# Altium schematic symbol library 74hc.SchLib: 44 symbols
Pins are listed as number, name and electrical type; pins without a type are passive.

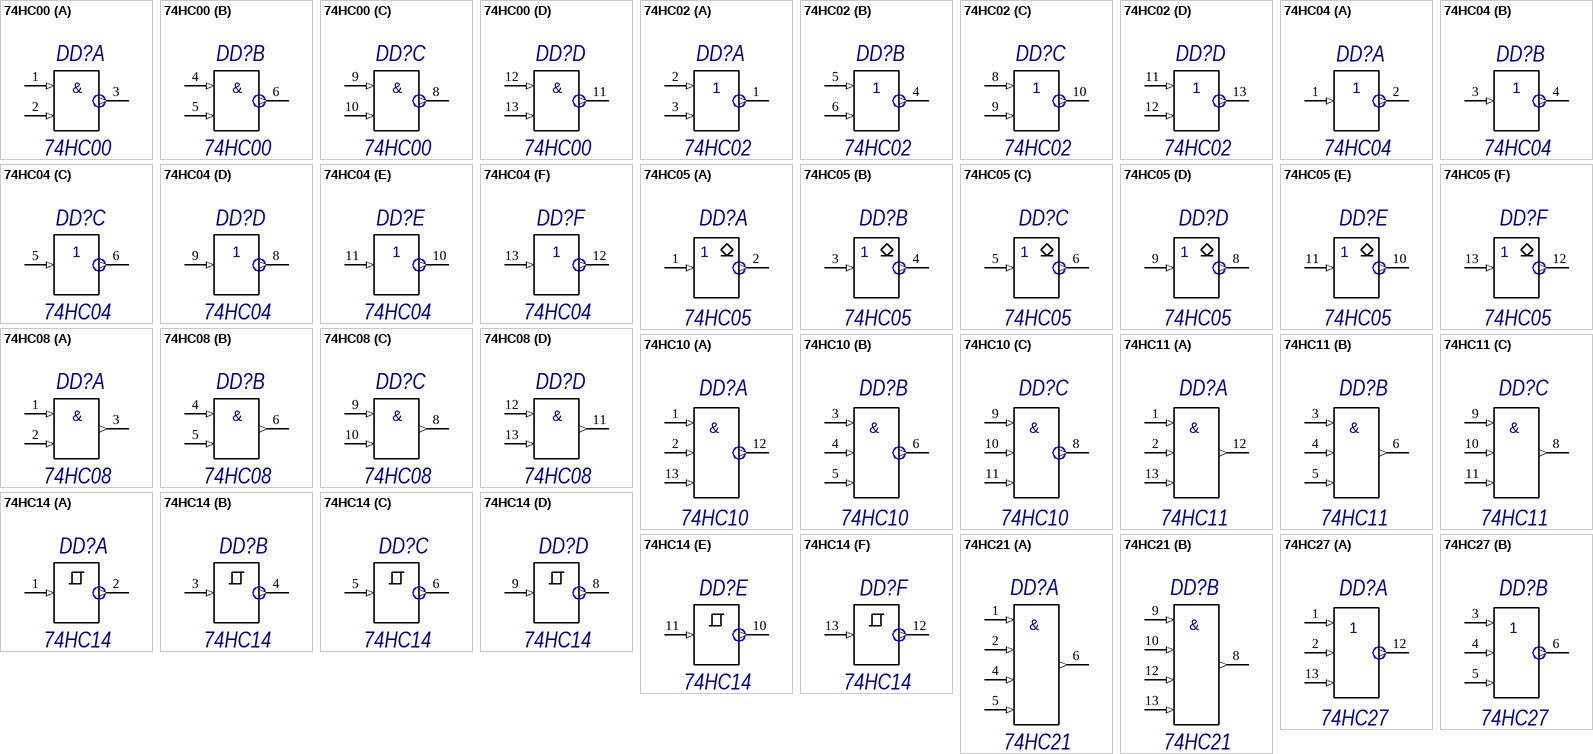
[diagram p0: symbols 74HC00 to 74HC27]

## 74HC00
designator DD?
Value: *
footprint SO14
pins on every part: 7 GND (power) hidden, 14 VCC (power) hidden
part A pins: 1 A (in), 2 B (in), 3 Y (out)
part B pins: 4 A (in), 5 B (in), 6 Y (out)
part C pins: 8 Y (out), 9 A (in), 10 B (in)
part D pins: 11 Y (out), 12 A (in), 13 B (in)
part A text: &
part B text: &
part C text: &
part D text: &

## 74HC02
designator DD?
Value: *
footprint SO14
pins on every part: 7 GND (power) hidden, 14 VCC (power) hidden
part A pins: 1 Y (out), 2 A (in), 3 B (in)
part B pins: 4 Y (out), 5 A (in), 6 B (in)
part C pins: 8 A (in), 9 B (in), 10 Y (out)
part D pins: 11 A (in), 12 B (in), 13 Y (out)

## 74HC04
designator DD?
Value: *
footprint SO14
pins on every part: 7 GND (power) hidden, 14 VCC (power) hidden
part A pins: 1 A (in), 2 Y (out)
part B pins: 3 A (in), 4 Y (out)
part C pins: 5 A (in), 6 Y (out)
part D pins: 8 Y (out), 9 A (in)
part E pins: 10 Y (out), 11 A (in)
part F pins: 12 Y (out), 13 A (in)

## 74HC05
designator DD?
Value: *
footprint SO14
pins on every part: 7 GND (power) hidden, 14 VCC (power) hidden
part A pins: 1 X (in), 2 Y (out)
part B pins: 3 X (in), 4 Y (out)
part C pins: 5 X (in), 6 Y (out)
part D pins: 8 Y (out), 9 X (in)
part E pins: 10 Y (out), 11 X (in)
part F pins: 12 Y (out), 13 X (in)

## 74HC08
designator DD?
Value: *
footprint SO14
pins on every part: 7 GND (power) hidden, 14 VCC (power) hidden
part A pins: 1 A (in), 2 B (in), 3 Y (out)
part B pins: 4 A (in), 5 B (in), 6 Y (out)
part C pins: 8 Y (out), 9 A (in), 10 B (in)
part D pins: 11 Y (out), 12 A (in), 13 B (in)
part A text: &
part B text: &
part C text: &
part D text: &

## 74HC10
designator DD?
Value: *
footprint SO14
pins on every part: 7 GND (power) hidden, 14 VCC (power) hidden
part A pins: 1 A (in), 2 B (in), 12 Y (out), 13 C (in)
part B pins: 3 A (in), 4 B (in), 5 C (in), 6 Y (out)
part C pins: 8 Y (out), 9 A (in), 10 B (in), 11 C (in)
part A text: &
part B text: &
part C text: &

## 74HC11
designator DD?
Value: *
footprint SO14
pins on every part: 7 GND (power) hidden, 14 VCC (power) hidden
part A pins: 1 A (in), 2 B (in), 12 Y (out), 13 C (in)
part B pins: 3 A (in), 4 B (in), 5 C (in), 6 Y (out)
part C pins: 8 Y (out), 9 A (in), 10 B (in), 11 C (in)
part A text: &
part B text: &
part C text: &

## 74HC14
designator DD?
Value: *
footprint SO14
pins on every part: 7 GND (power) hidden, 14 VCC (power) hidden
part A pins: 1 A (in), 2 Y (out)
part B pins: 3 A (in), 4 Y (out)
part C pins: 5 A (in), 6 Y (out)
part D pins: 8 Y (out), 9 A (in)
part E pins: 10 Y (out), 11 A (in)
part F pins: 12 Y (out), 13 A (in)

## 74HC21
designator DD?
Value: *
footprint SO14
pins on every part: 3 hidden, 7 GND (power) hidden, 11 hidden, 14 VCC (power) hidden
part A pins: 1 A (in), 2 B (in), 4 C (in), 5 D (in), 6 Y (out)
part B pins: 8 Y (out), 9 A (in), 10 B (in), 12 C (in), 13 D (in)
part A text: &
part B text: &

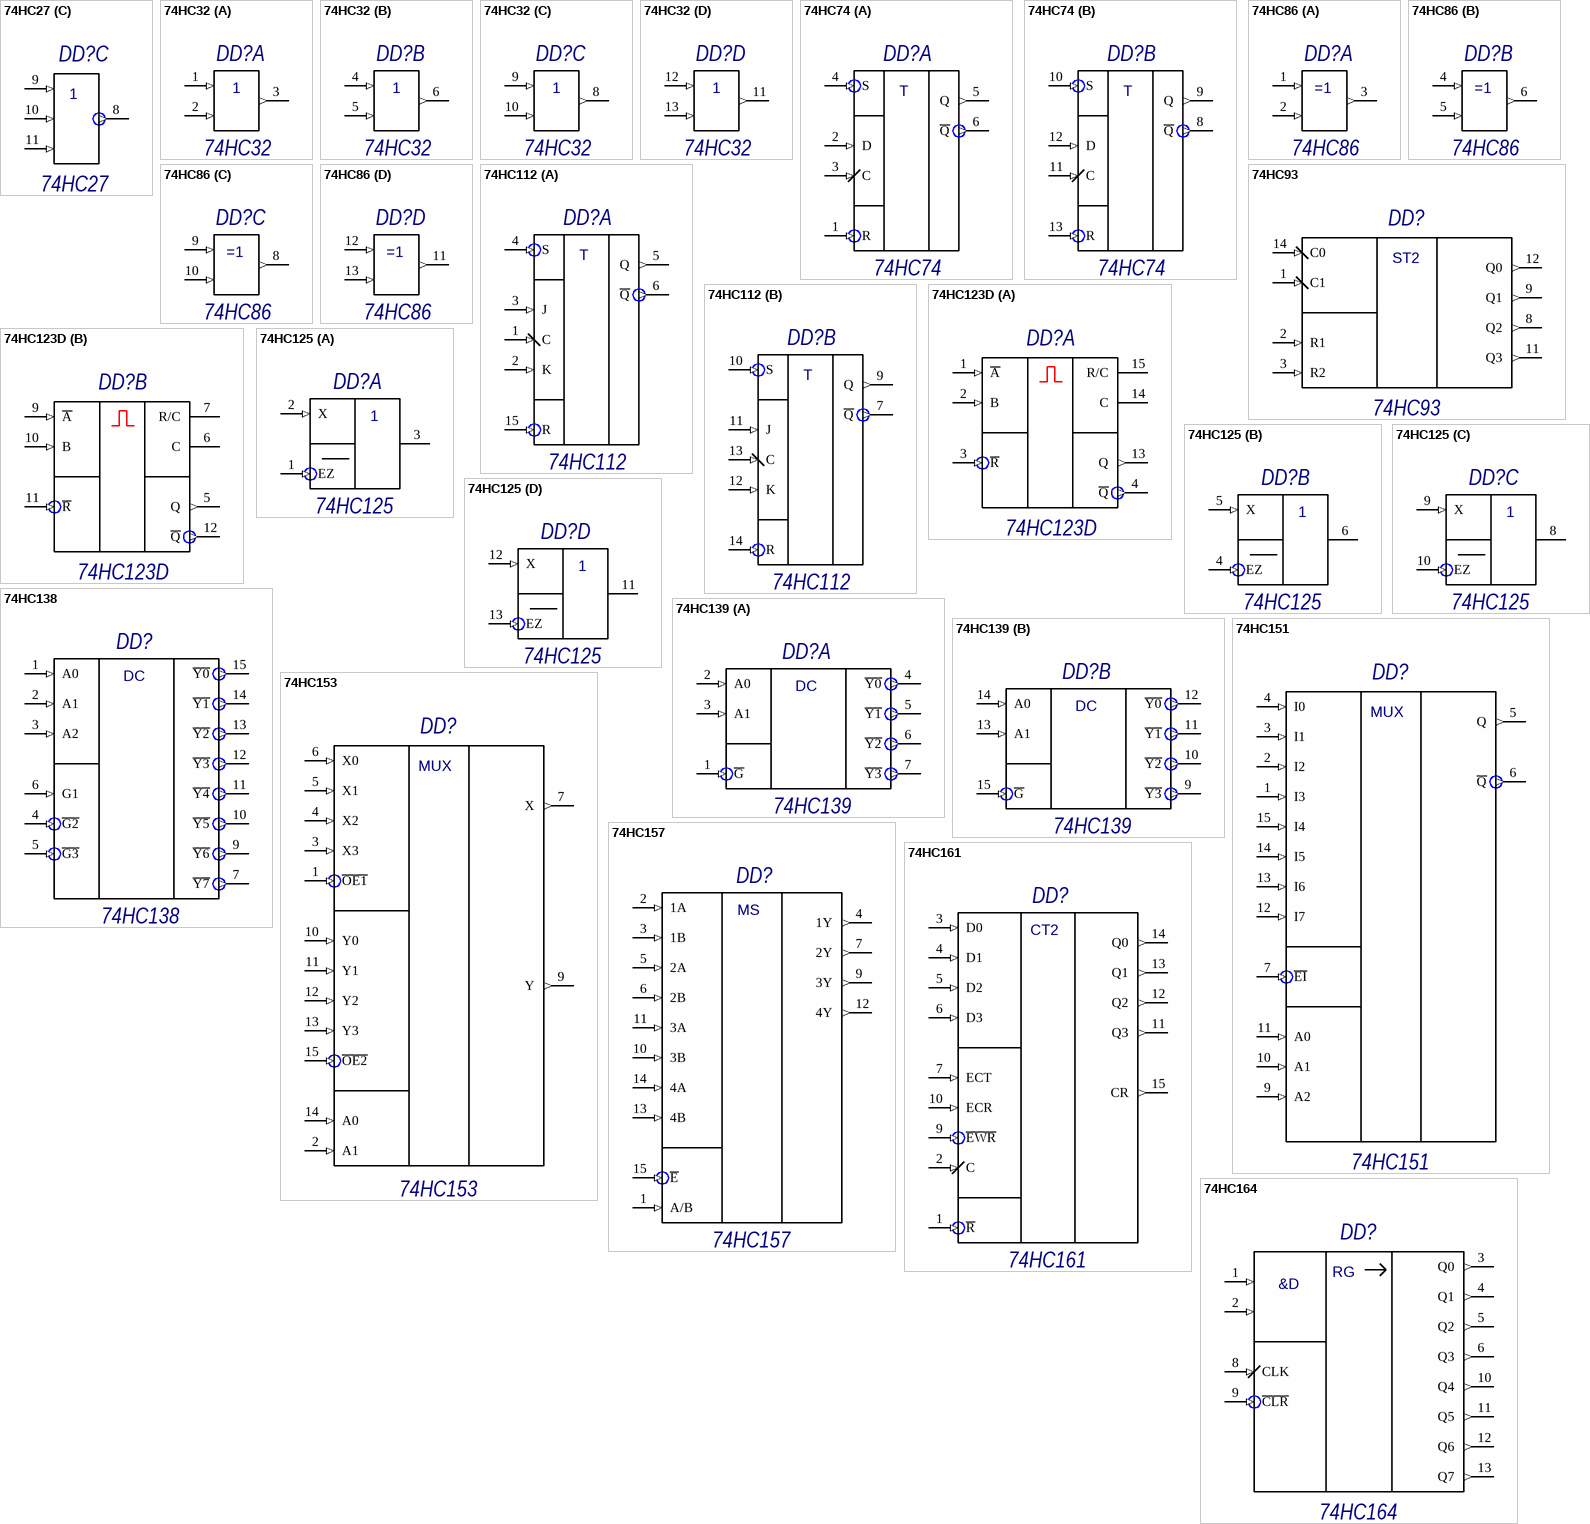
[diagram p1: symbols 74HC27 to 74HC164]

## 74HC27
designator DD?
Value: *
footprint SO14
pins on every part: 7 GND (power) hidden, 14 VCC (power) hidden
part A pins: 1 A (in), 2 B (in), 12 Y (out), 13 C (in)
part B pins: 3 A (in), 4 B (in), 5 C (in), 6 Y (out)
part C pins: 8 Y (out), 9 A (in), 10 B (in), 11 C (in)

## 74HC32
designator DD?
Value: *
footprint SO14
pins on every part: 7 GND (power) hidden, 14 VCC (power) hidden
part A pins: 1 A (in), 2 B (in), 3 Y (out)
part B pins: 4 A (in), 5 B (in), 6 Y (out)
part C pins: 8 Y (out), 9 A (in), 10 B (in)
part D pins: 11 Y (out), 12 A (in), 13 B (in)

## 74HC74
designator DD?
Value: *
footprint SO14
pins on every part: 7 GND (power) hidden, 14 VCC (power) hidden
part A pins: 1 R (in), 2 D (in), 3 C (in), 4 S (in), 5 Q (out), 6 ~{Q} (out)
part B pins: 8 ~{Q} (out), 9 Q (out), 10 S (in), 11 C (in), 12 D (in), 13 R (in)
part A text: T
part B text: T

## 74HC86
designator DD?
Value: *
footprint SO14
pins on every part: 7 GND (power) hidden, 14 VCC (power) hidden
part A pins: 1 A (in), 2 B (in), 3 Y (out)
part B pins: 4 A (in), 5 B (in), 6 Y (out)
part C pins: 8 Y (out), 9 A (in), 10 B (in)
part D pins: 11 Y (out), 12 A (in), 13 B (in)

## 74HC93
designator DD?
Value: *
footprint SO14
pins: 1 C1 (in), 2 R1 (in), 3 R2 (in), 4 hidden, 5 VCC (power) hidden, 6 hidden, 7 hidden, 8 Q2 (out), 9 Q1 (out), 10 GND (power) hidden, 11 Q3 (out), 12 Q0 (out), 13 hidden, 14 C0 (in)
text: ST2

## 74HC112
designator DD?
Value: *
footprint SO16
pins on every part: 8 GND (power) hidden, 16 VCC (power) hidden
part A pins: 1 C (in), 2 K (in), 3 J (in), 4 S (in), 5 Q (out), 6 ~{Q} (out), 15 R (in)
part B pins: 7 ~{Q} (out), 9 Q (out), 10 S (in), 11 J (in), 12 K (in), 13 C (in), 14 R (in)
part A text: T
part B text: T

## 74HC123D
designator DD?
Value: *
footprint SO16
pins on every part: 8 GND (power) hidden, 16 VCC (power) hidden
part A pins: 1 ~{A} (in), 2 B (in), 3 ~{R} (in), 4 ~{Q} (out), 13 Q (out), 14 C, 15 R/C
part B pins: 5 Q (out), 6 C, 7 R/C, 9 ~{A} (in), 10 B (in), 11 ~{R} (in), 12 ~{Q} (out)

## 74HC125
designator DD?
Value: *
footprint SO14
pins on every part: 7 GND (power) hidden, 14 VCC (power) hidden
part A pins: 1 EZ (in), 2 X (in), 3 Y (hiz)
part B pins: 4 EZ (in), 5 X (in), 6 Y (hiz)
part C pins: 8 Y (hiz), 9 X (in), 10 EZ (in)
part D pins: 11 Y (hiz), 12 X (in), 13 EZ (in)

## 74HC138
designator DD?
Value: *
footprint SO16
pins: 1 A0 (in), 2 A1 (in), 3 A2 (in), 4 ~{G2} (in), 5 ~{G3} (in), 6 G1 (in), 7 ~{Y7} (out), 8 GND (power) hidden, 9 ~{Y6} (out), 10 ~{Y5} (out), 11 ~{Y4} (out), 12 ~{Y3} (out), 13 ~{Y2} (out), 14 ~{Y1} (out), 15 ~{Y0} (out), 16 VCC (power) hidden
text: DC

## 74HC139
designator DD?
Value: *
footprint SO16
pins on every part: 8 GND (power) hidden, 16 VCC (power) hidden
part A pins: 1 ~{G} (in), 2 A0 (in), 3 A1 (in), 4 ~{Y0} (out), 5 ~{Y1} (out), 6 ~{Y2} (out), 7 ~{Y3} (out)
part B pins: 9 ~{Y3} (out), 10 ~{Y2} (out), 11 ~{Y1} (out), 12 ~{Y0} (out), 13 A1 (in), 14 A0 (in), 15 ~{G} (in)
part A text: DC
part B text: DC

## 74HC151
designator DD?
Value: *
footprint SO16
pins: 1 I3 (in), 2 I2 (in), 3 I1 (in), 4 I0 (in), 5 Q (out), 6 ~{Q} (out), 7 ~{EI} (in), 8 GND (power) hidden, 9 A2 (in), 10 A1 (in), 11 A0 (in), 12 I7 (in), 13 I6 (in), 14 I5 (in), 15 I4 (in), 16 VCC (power) hidden
text: MUX

## 74HC153
designator DD?
Value: *
footprint SO16
pins: 1 ~{OE1} (in), 2 A1 (in), 3 X3 (in), 4 X2 (in), 5 X1 (in), 6 X0 (in), 7 X (out), 8 GND (power) hidden, 9 Y (out), 10 Y0 (in), 11 Y1 (in), 12 Y2 (in), 13 Y3 (in), 14 A0 (in), 15 ~{OE2} (in), 16 VCC (power) hidden
text: MUX

## 74HC157
designator DD?
Value: *
footprint SO16
pins: 1 A/B (in), 2 1A (in), 3 1B (in), 4 1Y (out), 5 2A (in), 6 2B (in), 7 2Y (out), 8 GND (power) hidden, 9 3Y (out), 10 3B (in), 11 3A (in), 12 4Y (out), 13 4B (in), 14 4A (in), 15 ~{E} (in), 16 VCC (power) hidden
text: MS

## 74HC161
designator DD?
Value: *
footprint SO16
pins: 1 ~{R} (in), 2 C (in), 3 D0 (in), 4 D1 (in), 5 D2 (in), 6 D3 (in), 7 ECT (in), 8 GND (power) hidden, 9 ~{EWR} (in), 10 ECR (in), 11 Q3 (out), 12 Q2 (out), 13 Q1 (out), 14 Q0 (out), 15 CR (out), 16 VCC (power) hidden
text: CT2

## 74HC164
designator DD?
Value: *
footprint SO14
pins: 1 D1 (in), 2 D2 (in), 3 Q0 (out), 4 Q1 (out), 5 Q2 (out), 6 Q3 (out), 7 GND (power) hidden, 8 CLK (in), 9 ~{CLR} (in), 10 Q4 (out), 11 Q5 (out), 12 Q6 (out), 13 Q7 (out), 14 VCC (power) hidden
text: RG; &D

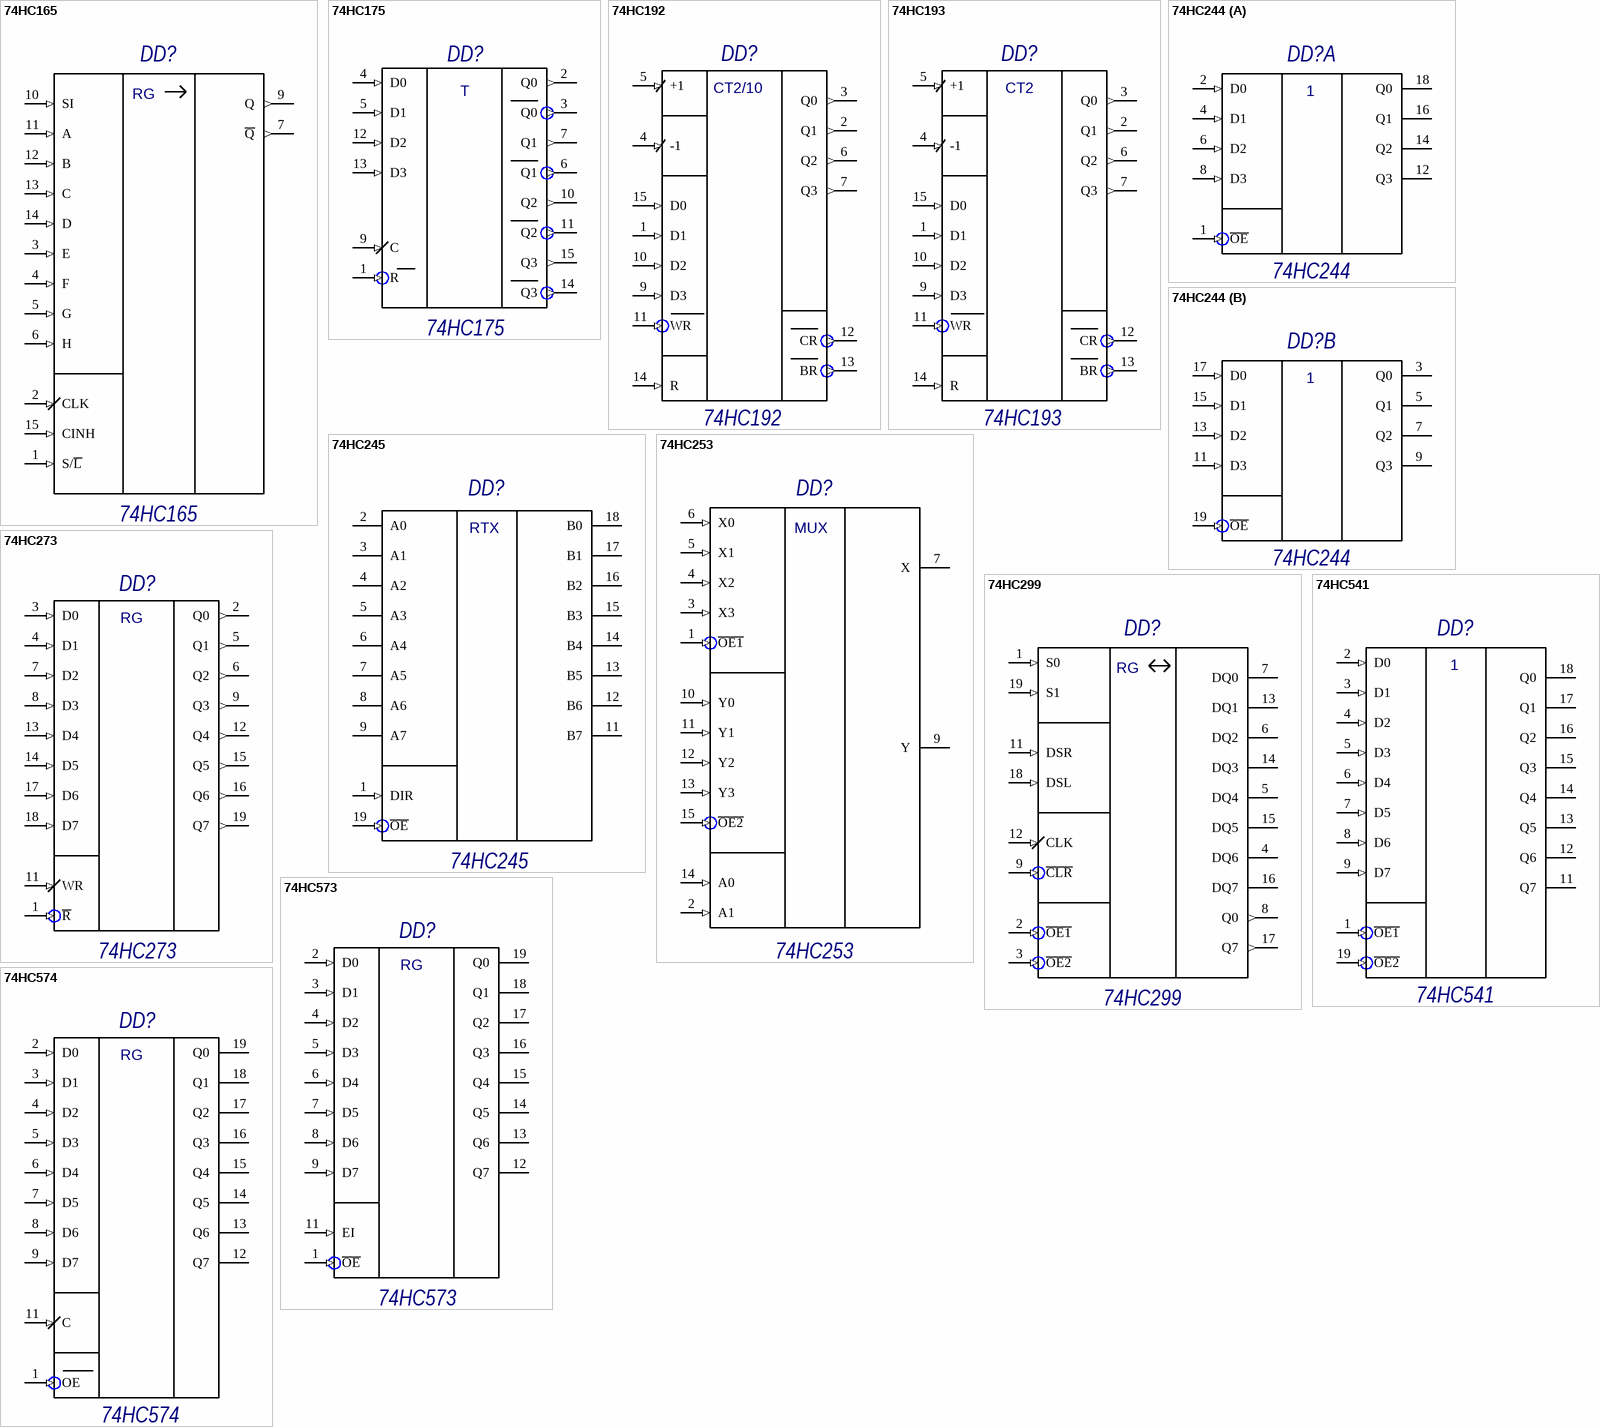
[diagram p2: symbols 74HC165 to 74HC574]

## 74HC165
designator DD?
Value: *
footprint SO16
pins: 1 S/~{L} (in), 2 CLK (in), 3 E (in), 4 F (in), 5 G (in), 6 H (in), 7 ~{Q} (out), 8 GND (power) hidden, 9 Q (out), 10 SI (in), 11 A (in), 12 B (in), 13 C (in), 14 D (in), 15 CINH (in), 16 VCC (power) hidden
text: RG

## 74HC175
designator DD?
Value: *
footprint SO16
pins: 1 R (in), 2 Q0 (out), 3 Q0 (out), 4 D0 (in), 5 D1 (in), 6 Q1 (out), 7 Q1 (out), 8 GND (power) hidden, 9 C (in), 10 Q2 (out), 11 Q2 (out), 12 D2 (in), 13 D3 (in), 14 Q3 (out), 15 Q3 (out), 16 VCC (power) hidden
text: T

## 74HC192
designator DD?
Value: *
footprint SO16
pins: 1 D1 (in), 2 Q1 (out), 3 Q0 (out), 4 -1 (in), 5 +1 (in), 6 Q2 (out), 7 Q3 (out), 8 GND (power) hidden, 9 D3 (in), 10 D2 (in), 11 WR (in), 12 CR (out), 13 BR (out), 14 R (in), 15 D0 (in), 16 VCC (power) hidden
text: CT2/10

## 74HC193
designator DD?
Value: *
footprint SO16
pins: 1 D1 (in), 2 Q1 (out), 3 Q0 (out), 4 -1 (in), 5 +1 (in), 6 Q2 (out), 7 Q3 (out), 8 GND (power) hidden, 9 D3 (in), 10 D2 (in), 11 WR (in), 12 CR (out), 13 BR (out), 14 R (in), 15 D0 (in), 16 VCC (power) hidden
text: CT2

## 74HC244
designator DD?
Value: *
footprint SOL20
pins on every part: 10 GND (power) hidden, 20 VCC (power) hidden
part A pins: 1 ~{OE} (in), 2 D0 (in), 4 D1 (in), 6 D2 (in), 8 D3 (in), 12 Q3 (hiz), 14 Q2 (hiz), 16 Q1 (hiz), 18 Q0 (hiz)
part B pins: 3 Q0 (hiz), 5 Q1 (hiz), 7 Q2 (hiz), 9 Q3 (hiz), 11 D3 (in), 13 D2 (in), 15 D1 (in), 17 D0 (in), 19 ~{OE} (in)

## 74HC245
designator DD?
Value: *
footprint SOL20
pins: 1 DIR (in), 2 A0 (hiz), 3 A1 (hiz), 4 A2 (hiz), 5 A3 (hiz), 6 A4 (hiz), 7 A5 (hiz), 8 A6 (hiz), 9 A7 (hiz), 10 GND (power) hidden, 11 B7 (hiz), 12 B6 (hiz), 13 B5 (hiz), 14 B4 (hiz), 15 B3 (hiz), 16 B2 (hiz), 17 B1 (hiz), 18 B0 (hiz), 19 ~{OE} (in), 20 VCC (power) hidden
text: RTX

## 74HC253
designator DD?
Value: *
footprint SO16
pins: 1 ~{OE1} (in), 2 A1 (in), 3 X3 (in), 4 X2 (in), 5 X1 (in), 6 X0 (in), 7 X (hiz), 8 GND (power) hidden, 9 Y (hiz), 10 Y0 (in), 11 Y1 (in), 12 Y2 (in), 13 Y3 (in), 14 A0 (in), 15 ~{OE2} (in), 16 VCC (power) hidden
text: MUX

## 74HC273
designator DD?
Value: *
footprint SOL20
pins: 1 ~{R} (in), 2 Q0 (out), 3 D0 (in), 4 D1 (in), 5 Q1 (out), 6 Q2 (out), 7 D2 (in), 8 D3 (in), 9 Q3 (out), 10 GND (power) hidden, 11 WR (in), 12 Q4 (out), 13 D4 (in), 14 D5 (in), 15 Q5 (out), 16 Q6 (out), 17 D6 (in), 18 D7 (in), 19 Q7 (out), 20 VCC (power) hidden
text: RG

## 74HC299
designator DD?
Value: *
footprint SOL20
pins: 1 S0 (in), 2 ~{OE1} (in), 3 ~{OE2} (in), 4 DQ6 (hiz), 5 DQ4 (hiz), 6 DQ2 (hiz), 7 DQ0 (hiz), 8 Q0 (out), 9 ~{CLR} (in), 10 GND (power) hidden, 11 DSR (in), 12 CLK (in), 13 DQ1 (hiz), 14 DQ3 (hiz), 15 DQ5 (hiz), 16 DQ7, 17 Q7 (out), 18 DSL (in), 19 S1 (in), 20 VCC (power) hidden
text: RG

## 74HC541
designator DD?
Value: *
footprint SOL20
pins: 1 ~{OE1} (in), 2 D0 (in), 3 D1 (in), 4 D2 (in), 5 D3 (in), 6 D4 (in), 7 D5 (in), 8 D6 (in), 9 D7 (in), 10 GND (power) hidden, 11 Q7 (hiz), 12 Q6 (hiz), 13 Q5 (hiz), 14 Q4 (hiz), 15 Q3 (hiz), 16 Q2 (hiz), 17 Q1 (hiz), 18 Q0 (hiz), 19 ~{OE2} (in), 20 VCC (power) hidden

## 74HC573
designator DD?
Value: *
footprint SOL20
pins: 1 ~{OE} (in), 2 D0 (in), 3 D1 (in), 4 D2 (in), 5 D3 (in), 6 D4 (in), 7 D5 (in), 8 D6 (in), 9 D7 (in), 10 GND (power) hidden, 11 EI (in), 12 Q7 (hiz), 13 Q6 (hiz), 14 Q5 (hiz), 15 Q4 (hiz), 16 Q3 (hiz), 17 Q2 (hiz), 18 Q1 (hiz), 19 Q0 (hiz), 20 VCC (power) hidden
text: RG

## 74HC574
designator DD?
Value: *
footprint SOL20
pins: 1 OE (in), 2 D0 (in), 3 D1 (in), 4 D2 (in), 5 D3 (in), 6 D4 (in), 7 D5 (in), 8 D6 (in), 9 D7 (in), 10 GND (power) hidden, 11 C (in), 12 Q7 (hiz), 13 Q6 (hiz), 14 Q5 (hiz), 15 Q4 (hiz), 16 Q3 (hiz), 17 Q2 (hiz), 18 Q1 (hiz), 19 Q0 (hiz), 20 VCC (power) hidden
text: RG

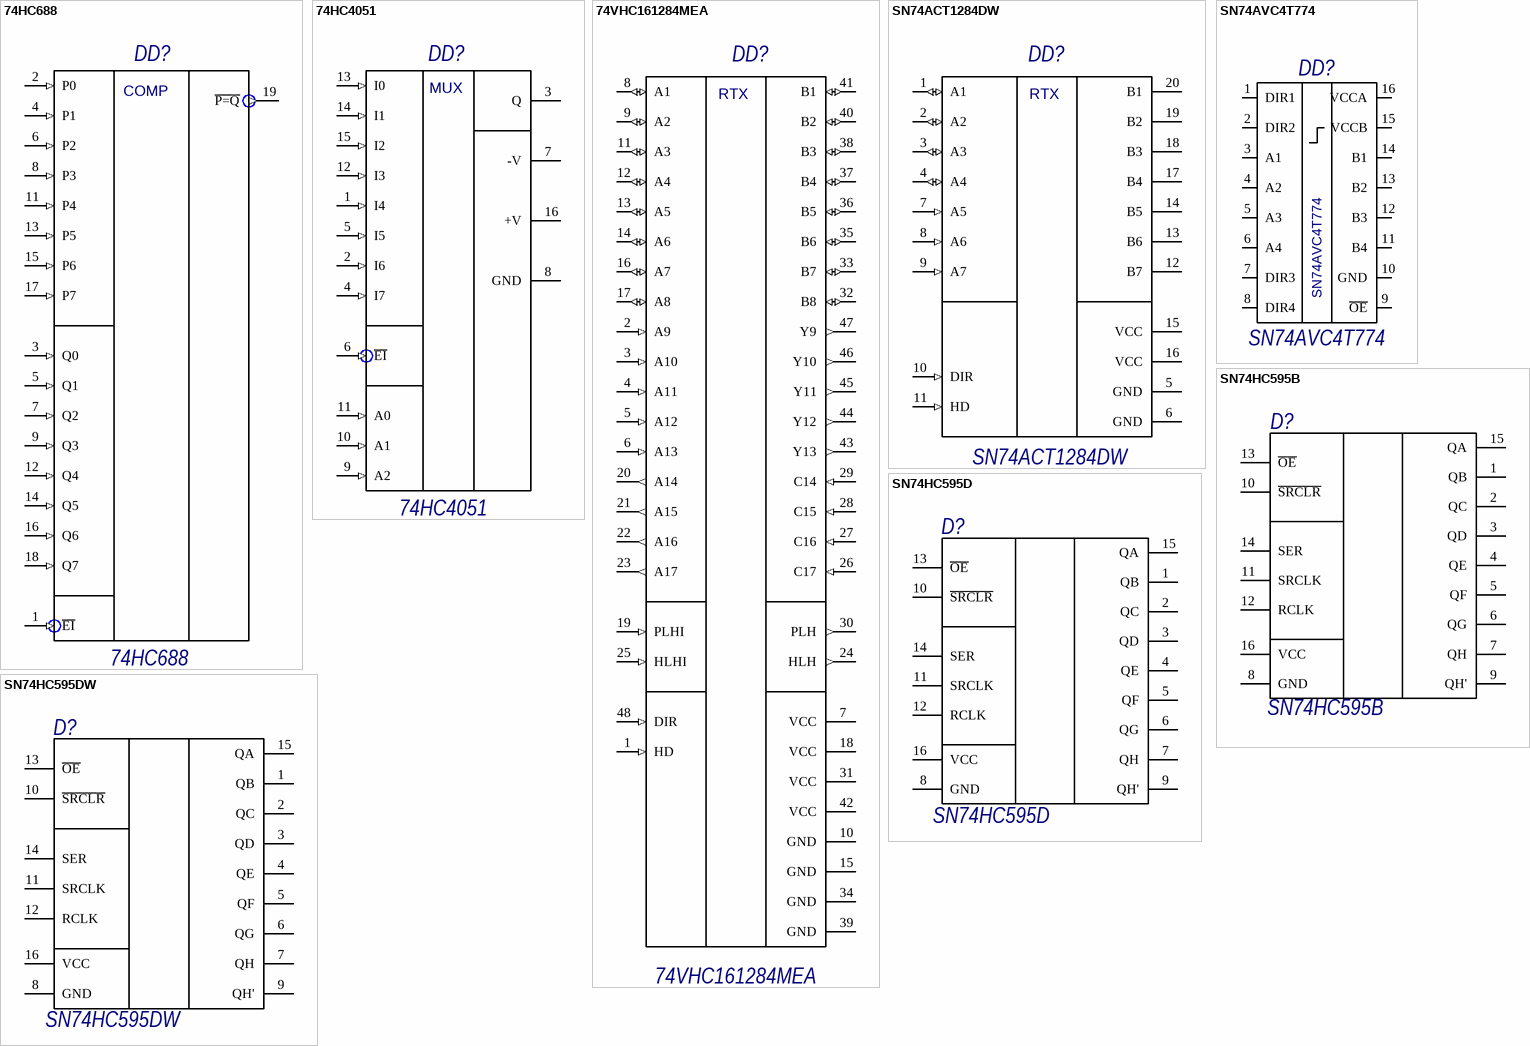
[diagram p3: symbols 74HC688 to SN74HC595DW]

## 74HC688
designator DD?
Value: *
footprint SOL20
pins: 1 ~{EI} (in), 2 P0 (in), 3 Q0 (in), 4 P1 (in), 5 Q1 (in), 6 P2 (in), 7 Q2 (in), 8 P3 (in), 9 Q3 (in), 10 GND (power) hidden, 11 P4 (in), 12 Q4 (in), 13 P5 (in), 14 Q5 (in), 15 P6 (in), 16 Q6 (in), 17 P7 (in), 18 Q7 (in), 19 ~{P=Q} (out), 20 VCC (power) hidden
text: COMP

## 74HC4051
designator DD?
Value: *
footprint SO16
pins: 1 I4 (in), 2 I6 (in), 3 Q, 4 I7 (in), 5 I5 (in), 6 ~{EI} (in), 7 -V (power), 8 GND (power), 9 A2 (in), 10 A1 (in), 11 A0 (in), 12 I3 (in), 13 I0 (in), 14 I1 (in), 15 I2 (in), 16 +V (power)
text: MUX

## 74VHC161284MEA
designator DD?
Value: *
footprint SSOP48
pins: 1 HD (in), 2 A9 (in), 3 A10 (in), 4 A11 (in), 5 A12 (in), 6 A13 (in), 7 VCC (power), 8 A1 (io), 9 A2 (io), 10 GND (power), 11 A3 (io), 12 A4 (io), 13 A5 (io), 14 A6 (io), 15 GND (power), 16 A7 (io), 17 A8 (io), 18 VCC (power), 19 PLHI (in), 20 A14 (out), 21 A15 (out), 22 A16 (out), 23 A17 (out), 24 HLH (out), 25 HLHI (in), 26 C17 (in), 27 C16 (in), 28 C15 (in), 29 C14 (in), 30 PLH (out), 31 VCC (power), 32 B8 (io), 33 B7 (io), 34 GND (power), 35 B6 (io), 36 B5 (io), 37 B4 (io), 38 B3 (io), 39 GND (power), 40 B2 (io), 41 B1 (io), 42 VCC (power), 43 Y13 (out), 44 Y12 (out), 45 Y11 (out), 46 Y10 (out), 47 Y9 (out), 48 DIR (in)
text: RTX

## SN74ACT1284DW
designator DD?
Value: *
footprint SOL20
pins: 1 A1 (io), 2 A2 (io), 3 A3 (io), 4 A4 (io), 5 GND (power), 6 GND (power), 7 A5 (in), 8 A6 (in), 9 A7 (in), 10 DIR (in), 11 HD (in), 12 B7 (hiz), 13 B6 (hiz), 14 B5 (hiz), 15 VCC (power), 16 VCC (power), 17 B4 (hiz), 18 B3 (hiz), 19 B2 (hiz), 20 B1 (hiz)
text: RTX

## SN74AVC4T774
designator DD?
Value: *
footprint SO16
pins: 1 DIR1, 2 DIR2, 3 A1, 4 A2, 5 A3, 6 A4, 7 DIR3, 8 DIR4, 9 ~{OE}, 10 GND, 11 B4, 12 B3, 13 B2, 14 B1, 15 VCCB, 16 VCCA

## SN74HC595B
designator D?
Shift register
footprint X1QFN
pins: 1 QB, 2 QC, 3 QD, 4 QE, 5 QF, 6 QG, 7 QH, 8 GND, 9 QH', 10 ~{SRCLR}, 11 SRCLK, 12 RCLK, 13 ~{OE}, 14 SER, 15 QA, 16 VCC

## SN74HC595D
designator D?
Shift register; Value: *
footprint SO16
pins: 1 QB, 2 QC, 3 QD, 4 QE, 5 QF, 6 QG, 7 QH, 8 GND, 9 QH', 10 ~{SRCLR}, 11 SRCLK, 12 RCLK, 13 ~{OE}, 14 SER, 15 QA, 16 VCC

## SN74HC595DW
designator D?
Shift register; Value: *
footprint SOJ16
pins: 1 QB, 2 QC, 3 QD, 4 QE, 5 QF, 6 QG, 7 QH, 8 GND, 9 QH', 10 ~{SRCLR}, 11 SRCLK, 12 RCLK, 13 ~{OE}, 14 SER, 15 QA, 16 VCC